# Altium footprint library Footprint.PcbLib: 9 footprints
Each footprint in its own frame and in the unit in brackets; x right, y up, seen from the top. Pads: shape width x height; smd on the part's side, far side on the other; paste and mask are expansions set on the pad; w line width, h text height; cw(c..) or ccw(c..) is an arc to the next point about the centre after c.
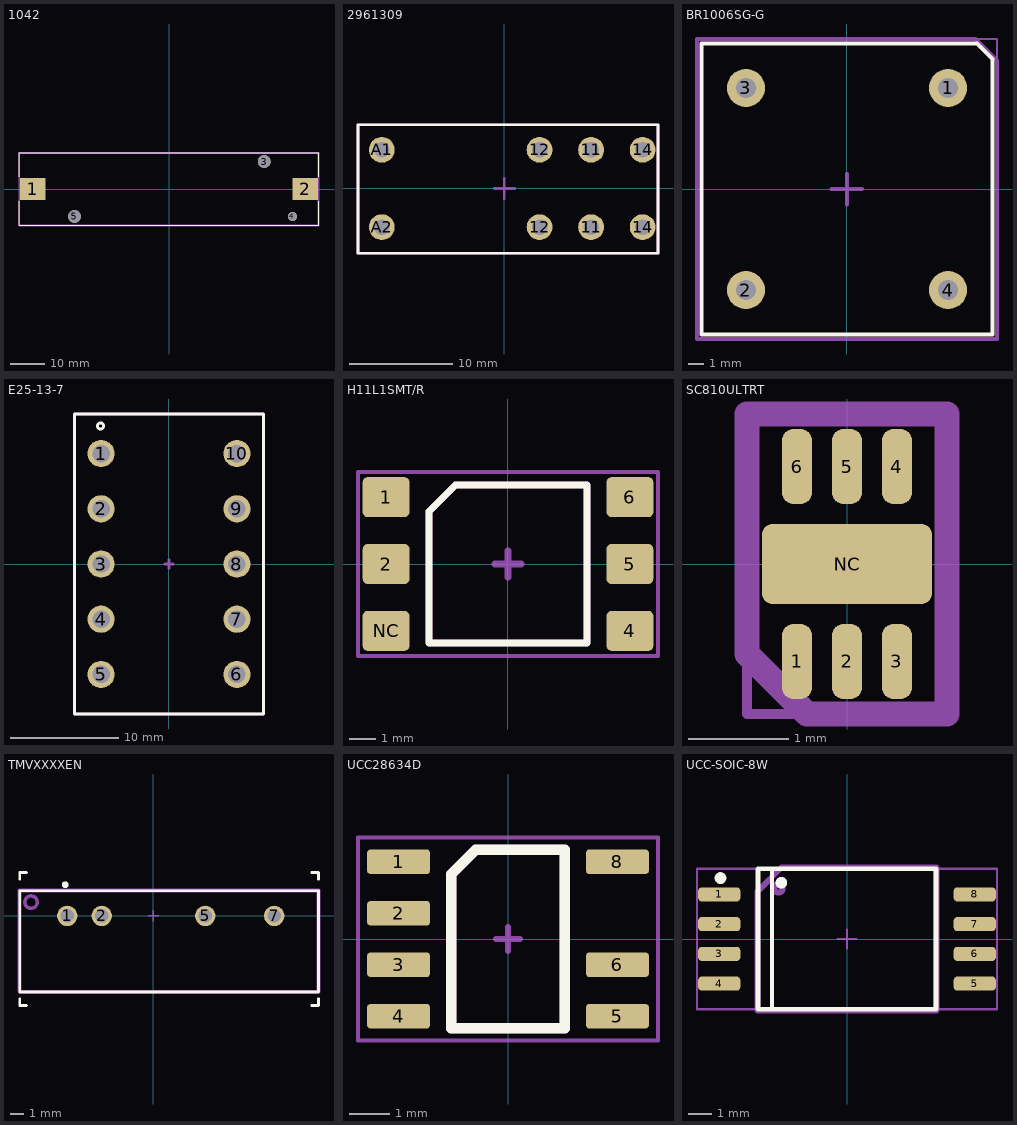
[diagram p0: the footprints below, top view; thin cyan lines are the x and y axes]

## 1042 [mil] "18650+Holder"
pads (5):
  rect 294x255 smd paste+0 mask+0: 1(-1562.5,0) 2(1562.5,0)
  round 146 hole 146 unplated: 3(1091.5,315) 5(-1083.5,-315)
  round 104 hole 104 unplated: 4(1415.5,-315)
Top Overlay:
  lines w6: -1714.5,-139.61 -1714.5,-416.5 1714.5,-416.5 1714.5,-139.61 ; -1714.5,139.61 -1714.5,416.5 1714.5,416.5 1714.5,139.61
Top Courtyard:
  lines w6: -1719.5,-421.5 1719.5,-421.5 1719.5,421.5 -1719.5,421.5 -1719.5,-421.5
Top Assembly (Mech29):
  circle w20: c-1562.5,75 r15
  lines w1: -1709.5,-411.5 1709.5,-411.5 1709.5,411.5 -1709.5,411.5 -1709.5,-411.5

## 2961309 [mm]
pads (8):
  round 2.5 hole 1.5: 11(8.41,-3.75) 11(8.41,3.75) 12(3.41,-3.75) 12(3.41,3.75) 14(13.41,-3.75) 14(13.41,3.75) A1(-11.89,3.75) A2(-11.89,-3.75)
Top Overlay:
  lines w0.254: -14.2,-6.3 14.9,-6.3 14.9,6.2 -14.2,6.2 -14.2,-6.3
Top Courtyard:
  lines w0.254: -1,0 1,0 ; 0,-1 0,1 ; -14.2,-6.3 14.9,-6.3 14.9,6.2 -14.2,6.2 -14.2,-6.3
Top Assembly (Mech29):
  text ".designator" at 1.7,-0.067 h0.7
3D body "pxc_2961309_02_REL-MR-12DC-21HC_3D.stp": height 15.8, standoff -3.5, extent -14.2,-6.35 14.8,6.35

## BR1006SG-G [mm]
pads (4):
  round 2.5 hole 1.3: 1(6.6,6.6) 2(-6.6,-6.6) 3(-6.6,6.6) 4(6.6,-6.6)
Top Overlay:
  lines w0.254: -9.5,-9.5 3.5,-9.5 9.5,-9.5 9.5,8.5 8.5,9.5 -9.5,9.5 -9.5,-9.5
Top Courtyard:
  lines w0.15: -9.8,-9.8 9.8,-9.8 9.8,9.8 -9.8,9.8 -9.8,-9.8
  lines w0.254: -1,0 1,0 ; 0,-1 0,1
Top Assembly (Mech29):
  lines w0.254: -9.8,-9.8 -9.8,9.8 8.4,9.8 9.8,8.4 9.8,-9.8 -9.8,-9.8
  text ".designator" at -4.2,-8.667 h0.7

## E25-13-7 [mm]
pads (10):
  round 2.5 hole 1.6: 1(-6.25,10.16) 2(-6.25,5.08) 3(-6.25,0) 4(-6.25,-5.08) 5(-6.25,-10.16) 6(6.25,-10.16) 7(6.25,-5.08) 8(6.25,0) 9(6.25,5.08) 10(6.25,10.16)
Top Overlay:
  circle w0.254: c-6.3,12.7 r0.283
  lines w0.254: -8.7,-13.8 -8.7,13.8 8.7,13.8 8.7,-13.8 -8.7,-13.8
Top Courtyard:
  lines w0.15: -8.7,-13.8 -8.7,13.8 8.7,13.8 8.7,-13.8 -8.7,-13.8
  lines w0.254: -0.4,0 0.4,0 ; 0,-0.4 0,0.4
Top Assembly (Mech29):
  lines w0.254: -8.7,-13.8 -8.7,13.8 8.7,13.8 8.7,-13.8 -8.7,-13.8
  text ".designator" at -3.2,-12.967 h0.7
3D body "E25-13-7-and-B66208X(vertical).STEP": height 26.2, standoff -3.4, extent -8.65,-13.75 8.65,13.75

## H11L1SMT/R [mm]
pads (6):
  rrect25% 1.78x1.52 smd: 1(-4.635,2.54) 2(-4.635,0) 4(4.635,-2.54) 5(4.635,0) 6(4.635,2.54) NC(-4.635,-2.54)
Top Overlay:
  lines w0.254: -3,-3 -3,2 -2,3 3,3 3,-3 0,-3 -3,-3
Top Courtyard:
  lines w0.15: -5.7,-3.5 5.7,-3.5 5.7,3.5 -5.7,3.5 -5.7,-3.5
  lines w0.254: -0.5,0 0.5,0 ; 0,-0.5 0,0.5
Top Assembly (Mech29):
  lines w0.254: -3,-3 -3,2 -2,3 3,3 3,-3 -3,-3
  text ".designator" at -2.9,-2.667 h0.7
3D body "DIP-6-SMD.step": height 3.71, standoff 0, extent -4.9,-3.65 4.9,3.6

## SC810ULTRT [mm] "SC810ULTRT"
pads (7):
  rrect75% 0.3x0.75 smd: 1(-0.5,-0.975) 2(0,-0.975) 3(0.5,-0.975) 4(0.5,0.975) 5(0,0.975) 6(-0.5,0.975)
  rrect25% 1.7x0.8 smd: NC(0,0)
Top Solder:
  rectangle: -0.8,-1.4 0.8,1.4
Top Courtyard:
  lines w0.1: -1,-1.5 1,-1.5 1,1.5 -1,1.5 -1,-1.5
  lines w0.15: -0.2,0 0.2,0 ; 0,-0.2 0,0.2
Top Assembly (Mech29):
  lines w0.254: -1,-0.9 -0.4,-1.5 1,-1.5 1,1.5 -1,1.5 -1,-0.9
  text ".designator" at -3.4,-2.567 h0.7
3D body "MLPD-UT-6_1P5X2_SEM.step": height 0.61, standoff 0, extent -0.8,-1.054 0.8,1.054

## TMVXXXXEN [mm] "TRACO DC-DC SIP Reinforced TMV"
height 12.5
pads (4):
  round 1.5 hole 1: 1(-6.35,0) 2(-3.81,0) 5(3.81,0) 7(8.89,0)
Top Overlay:
  circle w0.3: c-6.5,2.3 r0.1
  lines w0.203: -9.85,-6.1 -9.85,-6.6 -9.35,-6.6 ; -9.85,2.7 -9.85,3.2 -9.35,3.2 ; 11.65,-6.6 12.15,-6.6 12.15,-6.1 ; 11.65,3.2 12.15,3.2 12.15,2.7 ; -9.85,-5.6 12.15,-5.6 12.15,1.85 -9.85,1.85 -9.85,-5.6
Top Courtyard:
  lines w0.1: -0.4,0 0.4,0 ; 0,-0.4 0,0.4 ; -9.85,-5.6 -9.85,1.85 12.15,1.85 12.15,-5.6 -9.85,-5.6
  lines w0.254: -9.85,-5.6 12.15,-5.6 12.15,1.85 -9.85,1.85 -9.85,-5.6
Top Assembly (Mech29):
  circle w0.254: c-9.017,1.016 r0.458
  lines w0.254: -9.906,-5.461 -9.779,-5.588 12.192,-5.588 12.192,1.905 -9.906,1.905 -9.906,-5.461
  text ".designator" at -1.905,-4.699 h1.02
3D body "TMVxxxxEN.step": height 12.5, standoff -3.2, extent -9.85,-5.575 12.15,1.875

## UCC28634D [mm]
pads (7):
  rrect25% 1.55x0.6 smd: 1(-2.7,1.905) 2(-2.7,0.635) 3(-2.7,-0.635) 4(-2.7,-1.905) 5(2.7,-1.905) 6(2.7,-0.635) 8(2.7,1.905)
Top Overlay:
  lines w0.254: -1.4,-2.2 1.4,-2.2 1.4,2.2 -0.8,2.2 -1.4,1.6 -1.4,-2.2
Top Courtyard:
  lines w0.1: -3.7,-2.5 3.7,-2.5 3.7,2.5 -3.7,2.5 -3.7,-2.5
  lines w0.15: -0.3,0 0.3,0 ; 0,-0.3 0,0.3
Top Assembly (Mech29):
  lines w0.254: 1.4,2.2 -0.8,2.2 -1.4,1.6 -1.4,-2.2 1.4,-2.2 1.4,2.2 ; 1.4,2.2 1.4,2.2
  text ".designator" at -3,-3.3 h0.6
3D body "8SIOC.stp": height 1.92, standoff -0.03, extent -3.099,-2.502 3.099,2.502

## UCC-SOIC-8W [mm] "SOIC-8 Wide (7.6mm width)"
height 2.8
pads (8):
  rrect50% 1.8x0.6 smd: 1(-5.45,1.905) 2(-5.45,0.635) 3(-5.45,-0.635) 4(-5.45,-1.905) 5(5.45,-1.905) 6(5.45,-0.635) 7(5.45,0.635) 8(5.45,1.905)
Top Overlay:
  circle w0.3: c-5.4,2.6 r0.1
  circle w0.3: c-2.8,2.4 r0.1
  lines w0.152: -3.2,-3 -3.2,3
  lines w0.203: -3.8,-3 3.8,-3 3.8,3 -3.8,3 -3.8,-3
Top Courtyard:
  lines w0.1: -0.4,0 0.4,0 ; 0,-0.4 0,0.4 ; -6.4,-3 6.4,-3 6.4,3 -6.4,3 -6.4,-3
Top Assembly (Mech29):
  circle w0.254: c-2.921,2.159 r0.18
  lines w0.254: -3.81,-3.048 -3.81,2.032 -2.794,3.048 3.81,3.048 3.81,-3.048 -3.81,-3.048
  text ".designator" at -2.159,-2.54 h1.02
3D body "UCC5310MCDWR.step": height 2.65, standoff 0, extent -5.155,-2.925 5.155,2.925